# Altium integrated library E-button.IntLib: 9 symbols
Pins are listed as number, name and electrical type; pins without a type are passive.

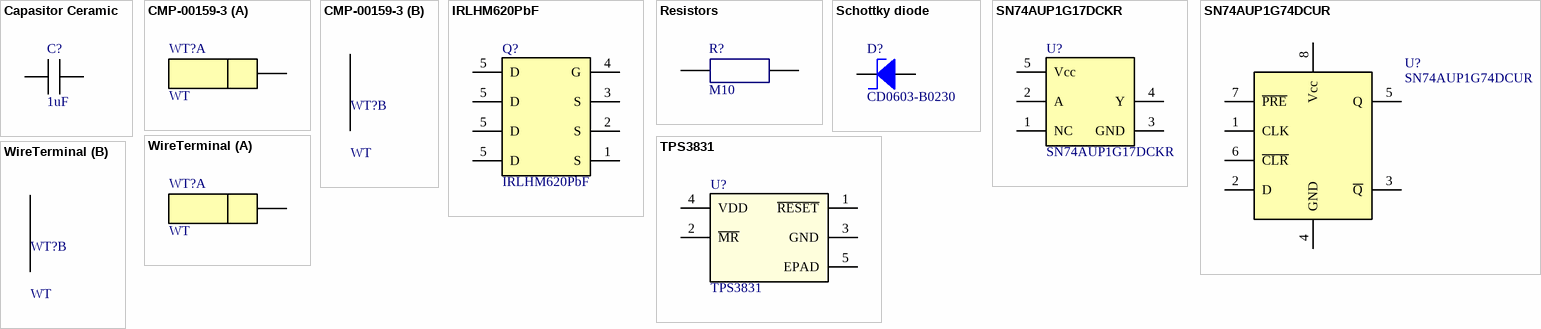
[diagram p0: symbols Capasitor Ceramic to WireTerminal]

## Capasitor Ceramic
designator C?, comment value 1uF  (hidden comment: 1u0)
C 1uF  x 25V; Component Name: Ceramic Capacitor, SMD, 0603, X7R, 1uF  x 25V 10%; Package: 0603; Marking: 1u0; Voltage: 25V
footprint Cap 0603
pins: 1, 2

## CMP-00159-3
designator WT?  value WT  (hidden comment: *)
WT; Component Name: Connector, WT; Package: WT; Marking: *; ComponentLink1Description: Datasheet; ComponentLink1URL: *; PartId: 1
footprint WT
part A pins: 1
part B pins: 1

## IRLHM620PbF
designator Q?, comment value IRLHM620PbF  (hidden comment: IRLHM620)
IRLHM620PbF; Component Name: HEXFET Power MOSFET, IRLHM620PbF , PQFN-8 3x3MM; ComponentLink1URL: https://www.infineon.com/dgdl/irlhm620pbf.pdf?fileId=5546d462533600a4015356638be325a3; ComponentLink1Description: Datasheet; Mounting type: SMD; Marking: IRLHM620; Package: PQFN-8 3x3
footprint PQFN-8 3.3x3.3
pins: 1 S, 2 S, 3 S, 4 G, 5 D, 5 D, 5 D, 5 D

## Resistors
designator R?, comment value M10  (hidden comment: 104)
R M10; Component Name: Fixed resistor, SMD, 0603, 100K 5%; Marking: 104; Package: 0603
footprint R0603 5%
pins: 1, 2

## Schottky diode
designator D?, comment value CD0603-B0230  (hidden comment: B5)
CD0603-B0230; Component Name: Schottky Barrier Diodes, CD0603-B0230, 0603; ComponentLink1URL: https://www.mouser.com/ds/2/54/bcd0603_1005-778009.pdf; ComponentLink1Description: Datasheet; Mounting type: SMD; Marking: B5; Package: 0603
footprint 0603
pins: 1, 2

## SN74AUP1G17DCKR
designator U?, comment value SN74AUP1G17DCKR  (hidden comment: SN74AUP)
SN74AUP1G17DCKR; Component Name: IC, Low-Power Single Schmitt-Trigger Buffer, SN74AUP1G17DCKR, SC-70-5; ComponentLink1URL: http://www.ti.com/lit/ds/symlink/sn74aup1g17.pdf; ComponentLink1Description: Datasheet; Mounting type: SMD; Marking: SN74AUP; Package: SC-70-5
footprint SC-70-5
pins: 1 NC, 2 A, 3 GND, 4 Y, 5 Vcc

## SN74AUP1G74DCUR
designator U?, comment value SN74AUP1G74DCUR  (hidden comment: SN74AUP)
SN74AUP1G74DCUR; Component Name: IC, Low-Power Single Positive-Edge-Triggered D-Type Flip-Flop, SN74AUP1G74DCUR, VSSOP-8; ComponentLink1URL: http://www.ti.com/lit/ds/symlink/sn74aup1g74.pdf; ComponentLink1Description: Datasheet; Mounting type: SMD; Marking: SN74AUP; Package: VSSOP-8
footprint VSSOP-8 2.3x2.3mm
pins: 1 CLK, 2 D, 3 ~{Q}, 4 GND, 5 Q, 6 ~{CLR}, 7 ~{PRE}, 8 Vcc

## TPS3831
designator U?
TPS3831K33; Component Name: Ultralow Power, Supply Voltage Monitor, TPS3831K33, X2SON-4; ComponentLink1URL: http://www.ti.com/lit/ds/symlink/tps3831.pdf; Value: TPS3831; ComponentLink1Description: Datasheet; Mounting type: SMD; Marking: TPS3831; Package: X2SON-4
footprint X2SON 1x1mm
pins: 1 ~{RESET} (power), 2 ~{MR}, 3 GND (power), 4 VDD (power), 5 EPAD

## WireTerminal
designator WT?  value WT  (hidden comment: *)
WT; Component Name: Connector, WT; Package: WT; Marking: *; ComponentLink1Description: Datasheet; ComponentLink1URL: *; PartId: 1
footprint WT
part A pins: 1
part B pins: 1